# Altium footprint library InterceptorRS232.PcbLib: 15 footprints
Each footprint in its own frame and in the unit in brackets; x right, y up, seen from the top. Pads: shape width x height; smd on the part's side, far side on the other; paste and mask are expansions set on the pad; w line width, h text height; cw(c..) or ccw(c..) is an arc to the next point about the centre after c.
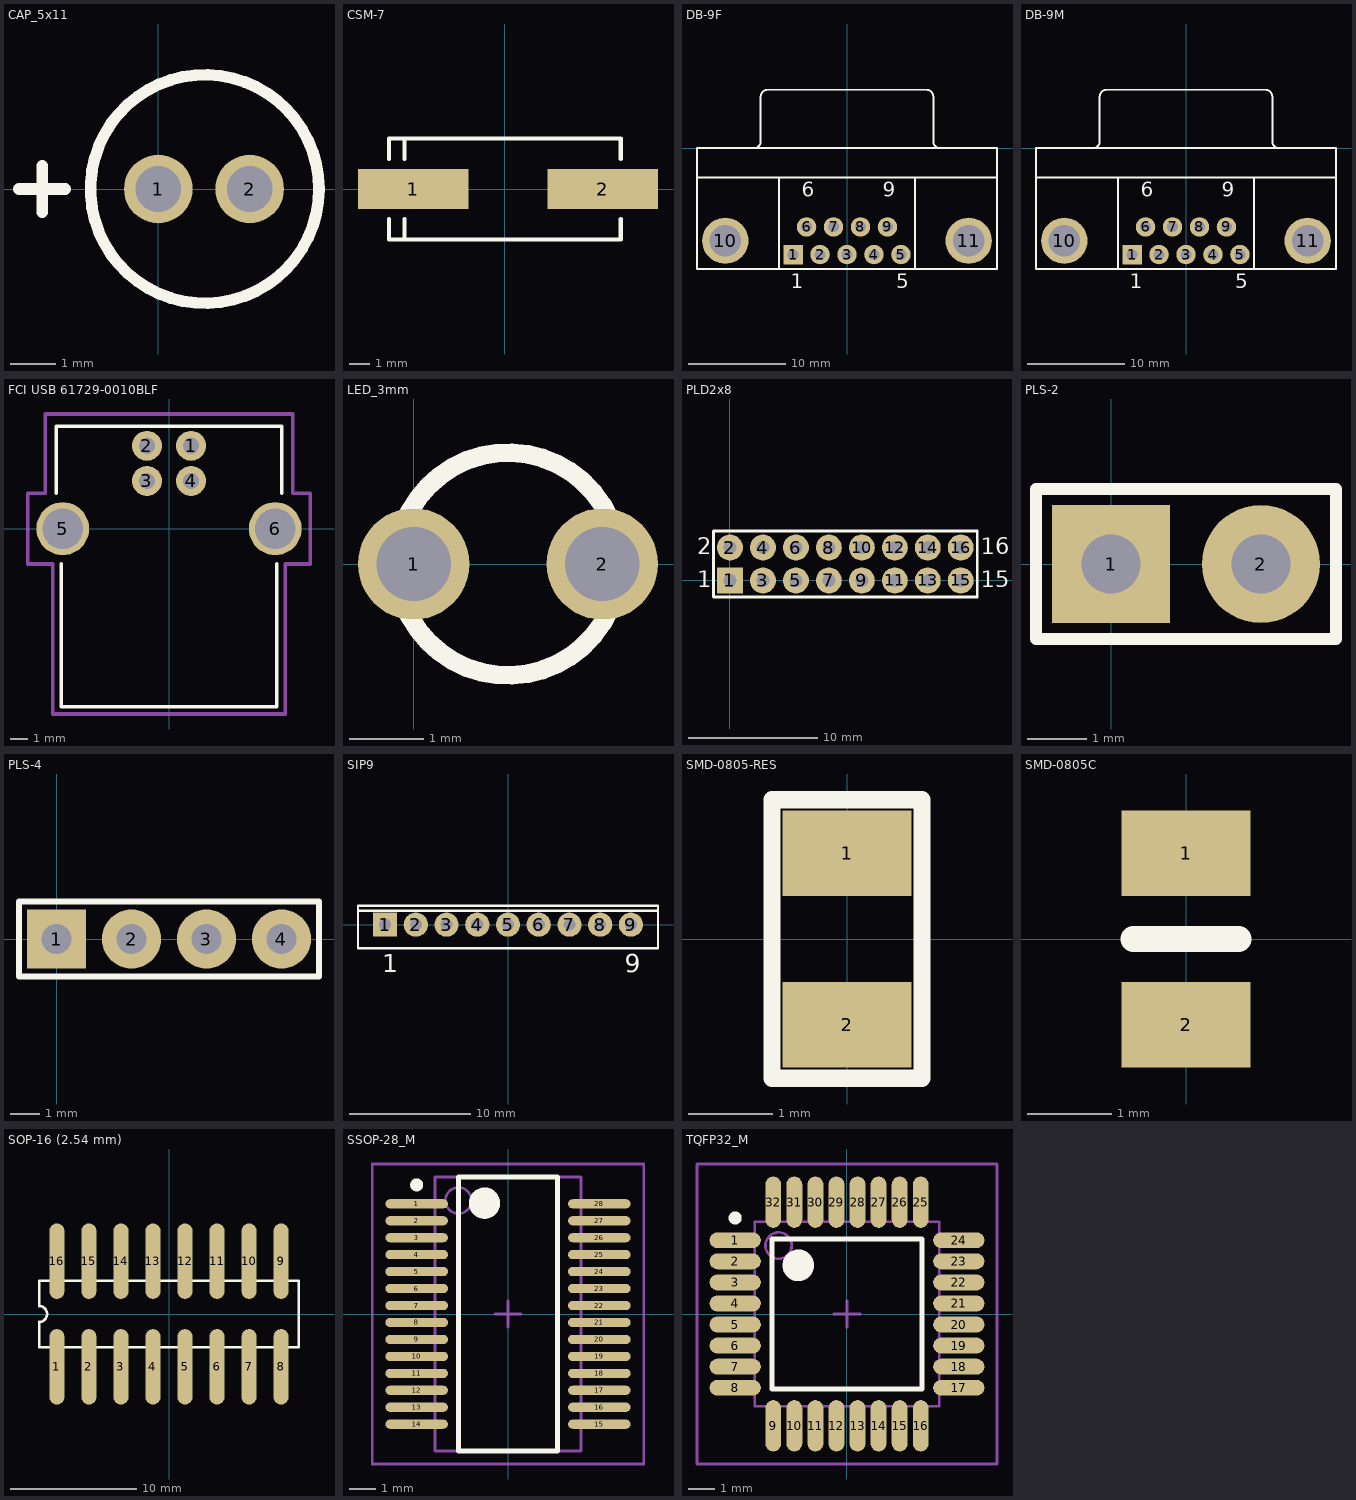
[diagram p0: the footprints below, top view; thin cyan lines are the x and y axes]

## CAP_5x11 [mm] "Electorlytic capacitor 5x11; 2 Leads"
height 11
pads (2):
  round 1.5 hole 1: 1(0,0) 2(2,0)
Top Overlay:
  circle w0.254: c1.016,0 r2.5
  lines w0.254: -3.048,0 -2.032,0 ; -2.54,-0.508 -2.54,0.508
3D body "5x11x2x0_5.STEP": height 11.11, standoff -20.11, extent -1.484,-2.5 3.506,2.5

## CSM-7 [mm] "Quartz Crystal, SM; 2 Leads; Body 11.4 x 4.8 x 5 mm (LxWxH)"
height 5
pads (2):
  rect 5.5x2 smd: 1(-4.55,0) 2(4.85,0)
Top Overlay:
  lines w0.2: -5.75,-1.5 -5.75,-2.5 5.75,-2.5 5.75,-1.5 ; -5.75,1.5 -5.75,2.5 5.75,2.5 5.75,1.5 ; -5,-2.5 -5,-1.5 ; -5,1.5 -5,2.5
3D body "crystal-smd.STEP": height 4.3, standoff 0, extent -6.604,-2.5 6.896,2.5

## DB-9F [mm] "Connector female; D Subminiature; 9 Position; Right Angle; Pitch 1.385 mm"
height 12.75
pads (11):
  rect 2x2 hole 1.09: 1(-5.54,-10.92)
  round 2 hole 1.09: 2(-2.77,-10.92) 3(0,-10.92) 4(2.77,-10.92) 5(5.54,-10.92) 6(-4.155,-8.08) 7(-1.385,-8.08) 8(1.385,-8.08) 9(4.155,-8.08)
  round 4.76 hole 3.26: 10(-12.495,-9.5) 11(12.495,-9.5)
Top Overlay:
  lines w0.2: -15.4,-3 15.4,-3 ; -9.56,0.005 ccw(c-9.56,0.7) -8.865,0.7 -8.865,5.3 ; -8.86,5.305 cw(c-8.165,5.305) -8.165,6 8.165,6 cw(c8.165,5.305) 8.86,5.305 ; -7,-12.4 -7,-3 ; 7,-12.4 7,-3 ; 8.865,5.3 8.865,0.7 ccw(c9.56,0.7) 9.56,0.005 ; -15.4,-12.4 15.4,-12.4 15.4,0 -15.4,0 -15.4,-12.4
  text "6" at -4.655,-4.975 h1.5
  text "9" at 3.655,-4.975 h1.5
  text "5" at 5.04,-14.375 h1.5
  text "1" at -5.79,-14.375 h1.5
3D body "DB9_F.STEP": height 12.52, standoff -4.35, extent -15.405,-12.5 15.405,5.8

## DB-9M [mm] "Connector male; D Subminiature; 9 Position; Right Angle; Pitch 1.385 mm"
height 12.75
pads (11):
  rect 2x2 hole 1.09: 1(-5.54,-10.92)
  round 2 hole 1.09: 2(-2.77,-10.92) 3(0,-10.92) 4(2.77,-10.92) 5(5.54,-10.92) 6(-4.155,-8.08) 7(-1.385,-8.08) 8(1.385,-8.08) 9(4.155,-8.08)
  round 4.76 hole 3.26: 10(-12.495,-9.5) 11(12.495,-9.5)
Top Overlay:
  lines w0.2: -15.4,-3 15.4,-3 ; -9.56,0.005 ccw(c-9.56,0.7) -8.865,0.7 -8.865,5.3 ; -8.86,5.305 cw(c-8.165,5.305) -8.165,6 8.165,6 cw(c8.165,5.305) 8.86,5.305 ; -7,-12.4 -7,-3 ; 7,-12.4 7,-3 ; 8.865,5.3 8.865,0.7 ccw(c9.56,0.7) 9.56,0.005 ; -15.4,-12.4 15.4,-12.4 15.4,0 -15.4,0 -15.4,-12.4
  text "6" at -4.655,-4.975 h1.5
  text "9" at 3.655,-4.975 h1.5
  text "5" at 5.04,-14.375 h1.5
  text "1" at -5.79,-14.375 h1.5
3D body "DB9-M.STEP": height 12.5, standoff -3.9, extent -15.25,-12.716 15.25,4.984

## FCI USB 61729-0010BLF [mm]
height 11
pads (6):
  round 1.7 hole 0.92: 1(1.25,4.7) 2(-1.25,4.7) 3(-1.25,2.71) 4(1.25,2.71)
  round 3 hole 2.3: 5(-6.02,0) 6(6.02,0)
Top Overlay:
  lines w0.2: -6.4,2 -6.4,5.8 6.4,5.8 6.4,2 ; -6.1,-2 -6.1,-10.1 6.1,-10.1 6.1,-2
Mechanical 15:
  lines w0.2: -8,-2 -6.6,-2 -6.6,-10.5 0,-10.5 6.6,-10.5 6.6,-2 8,-2 8,2 7,2 7,6.5 0,6.5 -7,6.5 -7,2 -8,2 -8,-2
3D body "USB-B.STEP": height 10.9, standoff -3.32, extent -7.493,-10.282 7.457,6.218

## LED_3mm [mm] "Photosensitive Diode; 2 Leads"
pads (2):
  round 1.5 hole 1: 1(0,0) 2(2.54,0)
Top Overlay:
  circle w0.254: c1.27,0 r1.5
3D body "GREENLED.step": height 5.08, standoff -3.47, extent -0.762,-1.524 3.226,1.968

## PLD2x8 [mm] "Connector; Header; 8x2 Position"
pads (16):
  rect 2x2 hole 1: 1(0,0)
  round 2 hole 1: 2(0,2.54) 3(2.54,0) 4(2.54,2.54) 5(5.08,0) 6(5.08,2.54) 7(7.62,0) 8(7.62,2.54) 9(10.16,0) 10(10.16,2.54) 11(12.7,0) 12(12.7,2.54) 13(15.24,0) 14(15.24,2.54) 15(17.78,0) 16(17.78,2.54)
Top Overlay:
  lines w0.2: -1.27,-1.27 -1.27,3.81 19.05,3.81 19.05,-1.27 -1.27,-1.27
  text "2" at -2.54,2.032 h1.27
  text "1" at -2.54,-0.508 h1.27
  text "15" at 19.304,-0.508 h1.27
  text "16" at 19.304,2.032 h1.27
3D body "PLD-16.STEP": height 8.6, standoff -3, extent -1.27,-1.23 19.05,3.77

## PLS-2 [mm] "Connector; Header; 2 Position"
pads (2):
  rect 2x2 hole 1: 1(0,0)
  round 2 hole 1: 2(2.54,0)
Top Overlay:
  lines w0.2: -1.27,-1.27 -1.27,1.27 3.81,1.27 3.81,-1.27 -1.27,-1.27
3D body "PLS-2.step": height 8.54, standoff -3, extent -1.27,-1.27 3.81,1.27

## PLS-4 [mm] "Connector; Header; 4 Position"
pads (4):
  rect 2x2 hole 1: 1(0,0)
  round 2 hole 1: 2(2.54,0) 3(5.08,0) 4(7.62,0)
Top Overlay:
  lines w0.2: -1.27,-1.27 8.89,-1.27 8.89,1.27 -1.27,1.27 -1.27,-1.27
3D body "PLS-4.stp": height 9.5, standoff -3.2, extent -1.27,-1.27 8.89,1.27

## SIP9 [mm] "TO, Thru-Hole, Vertical, Heatsink Mounted; 9 In-Line Leads; Pitch 2.54 mm"
height 18.1
pads (9):
  rect 2x2 hole 1: 1(-10.16,0)
  round 2 hole 1: 2(-7.62,0) 3(-5.08,0) 4(-2.54,0) 5(0,0) 6(2.54,0) 7(5.08,0) 8(7.62,0) 9(10.16,0)
Top Overlay:
  lines w0.2: -12.4,1.15 12.4,1.15 ; -12.4,-1.95 -12.4,1.55 12.4,1.55 12.4,-1.95 -12.4,-1.95
  text "9" at 9.66,-3.925 h1.5
  text "1" at -10.41,-3.925 h1.5
3D body "SIP9.step": height 6.86, standoff -2.54, extent -11.176,-1.27 11.176,1.27

## SMD-0805-RES [mil]
pads (2):
  rect 60x40 smd: 1(0,40) 2(0,-40)
Top Overlay:
  lines w8: -35,-65 -35,65 35,65 35,-65 -35,-65
3D body "SW3dPS-0805 SMD Resistor.STEP": height 30.79, standoff 0, extent -23.6,-39.36 25.6,39.38

## SMD-0805C [mil]
pads (2):
  rect 60x40 smd: 1(0,40) 2(0,-40)
Top Overlay:
  lines w12: -24.6,0.01 24.6,0.01
3D body "capacitor 0805.step": height 35.43, standoff 0, extent -24.6,-39.36 24.6,39.38

## SOP-16 (2.54 mm) [mm] "SOP; 16 Leads; Row Spacing 7.62 mm; Pitch 2.54 mm"
height 4.45
pads (16):
  oval 1.2x6 smd: 1(-8.89,-4.191) 2(-6.35,-4.191) 3(-3.81,-4.191) 4(-1.27,-4.191) 5(1.27,-4.191) 6(3.81,-4.191) 7(6.35,-4.191) 8(8.89,-4.191) 9(8.89,4.191) 10(6.35,4.191) 11(3.81,4.191) 12(1.27,4.191) 13(-1.27,4.191) 14(-3.81,4.191) 15(-6.35,4.191) 16(-8.89,4.191)
Top Overlay:
  lines w0.2: -10.3,-2.65 -10.3,-0.635 ccw(c-10.3,0) -10.3,0.635 -10.3,2.65 10.3,2.65 10.3,-2.65 -10.3,-2.65
3D body "DIP16_SMD.step": height 4.45, standoff 0, extent -10.16,-4.746 10.141,5.254

## SSOP-28_M [mm] "SOP, 28-Leads, Body 10.2x5.3mm, Pitch 0.65mm, IPC Low Density"
height 2
pads (28):
  oval 2.4x0.35 smd: 1(-3.5,4.225) 2(-3.5,3.575) 3(-3.5,2.925) 4(-3.5,2.275) 5(-3.5,1.625) 6(-3.5,0.975) 7(-3.5,0.325) 8(-3.5,-0.325) 9(-3.5,-0.975) 10(-3.5,-1.625) 11(-3.5,-2.275) 12(-3.5,-2.925) 13(-3.5,-3.575) 14(-3.5,-4.225) 15(3.5,-4.225) 16(3.5,-3.575) 17(3.5,-2.925) 18(3.5,-2.275) 19(3.5,-1.625) 20(3.5,-0.975) 21(3.5,-0.325) 22(3.5,0.325) 23(3.5,0.975) 24(3.5,1.625) 25(3.5,2.275) 26(3.5,2.925) 27(3.5,3.575) 28(3.5,4.225)
Top Overlay:
  circle w0.6: c-0.9,4.25 r0.3
  circle w0.25: c-3.5,4.95 r0.125
  lines w0.2: -1.9,-5.25 1.9,-5.25 1.9,5.25 -1.9,5.25 -1.9,-5.25
Mechanical 13:
  circle w0.1: c-1.9,4.35 r0.5
  lines w0.1: -2.8,-5.25 2.8,-5.25 2.8,5.25 -2.8,5.25 -2.8,-5.25
Mechanical 15:
  lines w0.1: -0.5,0 0.5,0 ; 0,-0.5 0,0.5 ; -5.2,-5.75 5.2,-5.75 5.2,5.75 -5.2,5.75 -5.2,-5.75
3D body "ssop28.stp": height 1.9, standoff 0, extent -3.9,-5.12 3.9,5.08

## TQFP32_M [mm] "Thin QFP, 32-Leads, Body 7x7mm, Pitch 0.8mm, IPC Low Density"
height 1.6
pads (32):
  oval 1.95x0.6 smd: 1(-4.25,2.8) 2(-4.25,2) 3(-4.25,1.2) 4(-4.25,0.4) 5(-4.25,-0.4) 6(-4.25,-1.2) 7(-4.25,-2) 8(-4.25,-2.8) 17(4.25,-2.8) 18(4.25,-2) 19(4.25,-1.2) 20(4.25,-0.4) 21(4.25,0.4) 22(4.25,1.2) 23(4.25,2) 24(4.25,2.8)
  oval 0.6x1.95 smd: 9(-2.8,-4.25) 10(-2,-4.25) 11(-1.2,-4.25) 12(-0.4,-4.25) 13(0.4,-4.25) 14(1.2,-4.25) 15(2,-4.25) 16(2.8,-4.25) 25(2.8,4.25) 26(2,4.25) 27(1.2,4.25) 28(0.4,4.25) 29(-0.4,4.25) 30(-1.2,4.25) 31(-2,4.25) 32(-2.8,4.25)
Top Overlay:
  circle w0.25: c-4.25,3.65 r0.125
  circle w0.6: c-1.85,1.85 r0.3
  lines w0.2: -2.85,-2.85 -2.85,2.85 2.85,2.85 2.85,-2.85 -2.85,-2.85
Mechanical 13:
  circle w0.1: c-2.6,2.6 r0.5
  lines w0.1: -3.5,-3.5 -3.5,3.5 3.5,3.5 3.5,-3.5 -3.5,-3.5
Mechanical 15:
  lines w0.1: -0.5,0 0.5,0 ; 0,-0.5 0,0.5 ; -5.7,-5.7 -5.7,5.7 5.7,5.7 5.7,-5.7 -5.7,-5.7
3D body "TQFP-32.STEP": height 1.1, standoff 0, extent -4.5,-4.5 4.5,4.5